# EAGLE library part TPS610333DRLR (library TPS610333DRLR)
TPS610333DRLR is a linear boost converter that takes an input of 3V-4.35V and outputs 5V
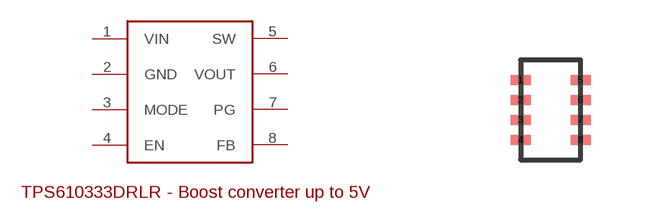
[diagram p0: symbol with the pads of TPS610333DRLR; footprint TPS610333DRLR]

Designator prefix -

## TPS610333DRLR  [TPS610333DRLR]
1  VIN
2  GND
3  MODE
4  EN
5  SW
6  VOUT
7  PG
8  FB

## Footprint TPS610333DRLR (pad centres in mm)
smd 0.5 x 0.25: 1 -1,0; 2 -1,-0.5; 3 -1,-1; 4 -1,-1.5; 5 0.5,0; 6 0.5,-0.5; 7 0.5,-1; 8 0.5,-1.5